# Altium schematic symbol library Minna Project.SchLib: 27 symbols
Pins are listed as number, name and electrical type; pins without a type are passive.

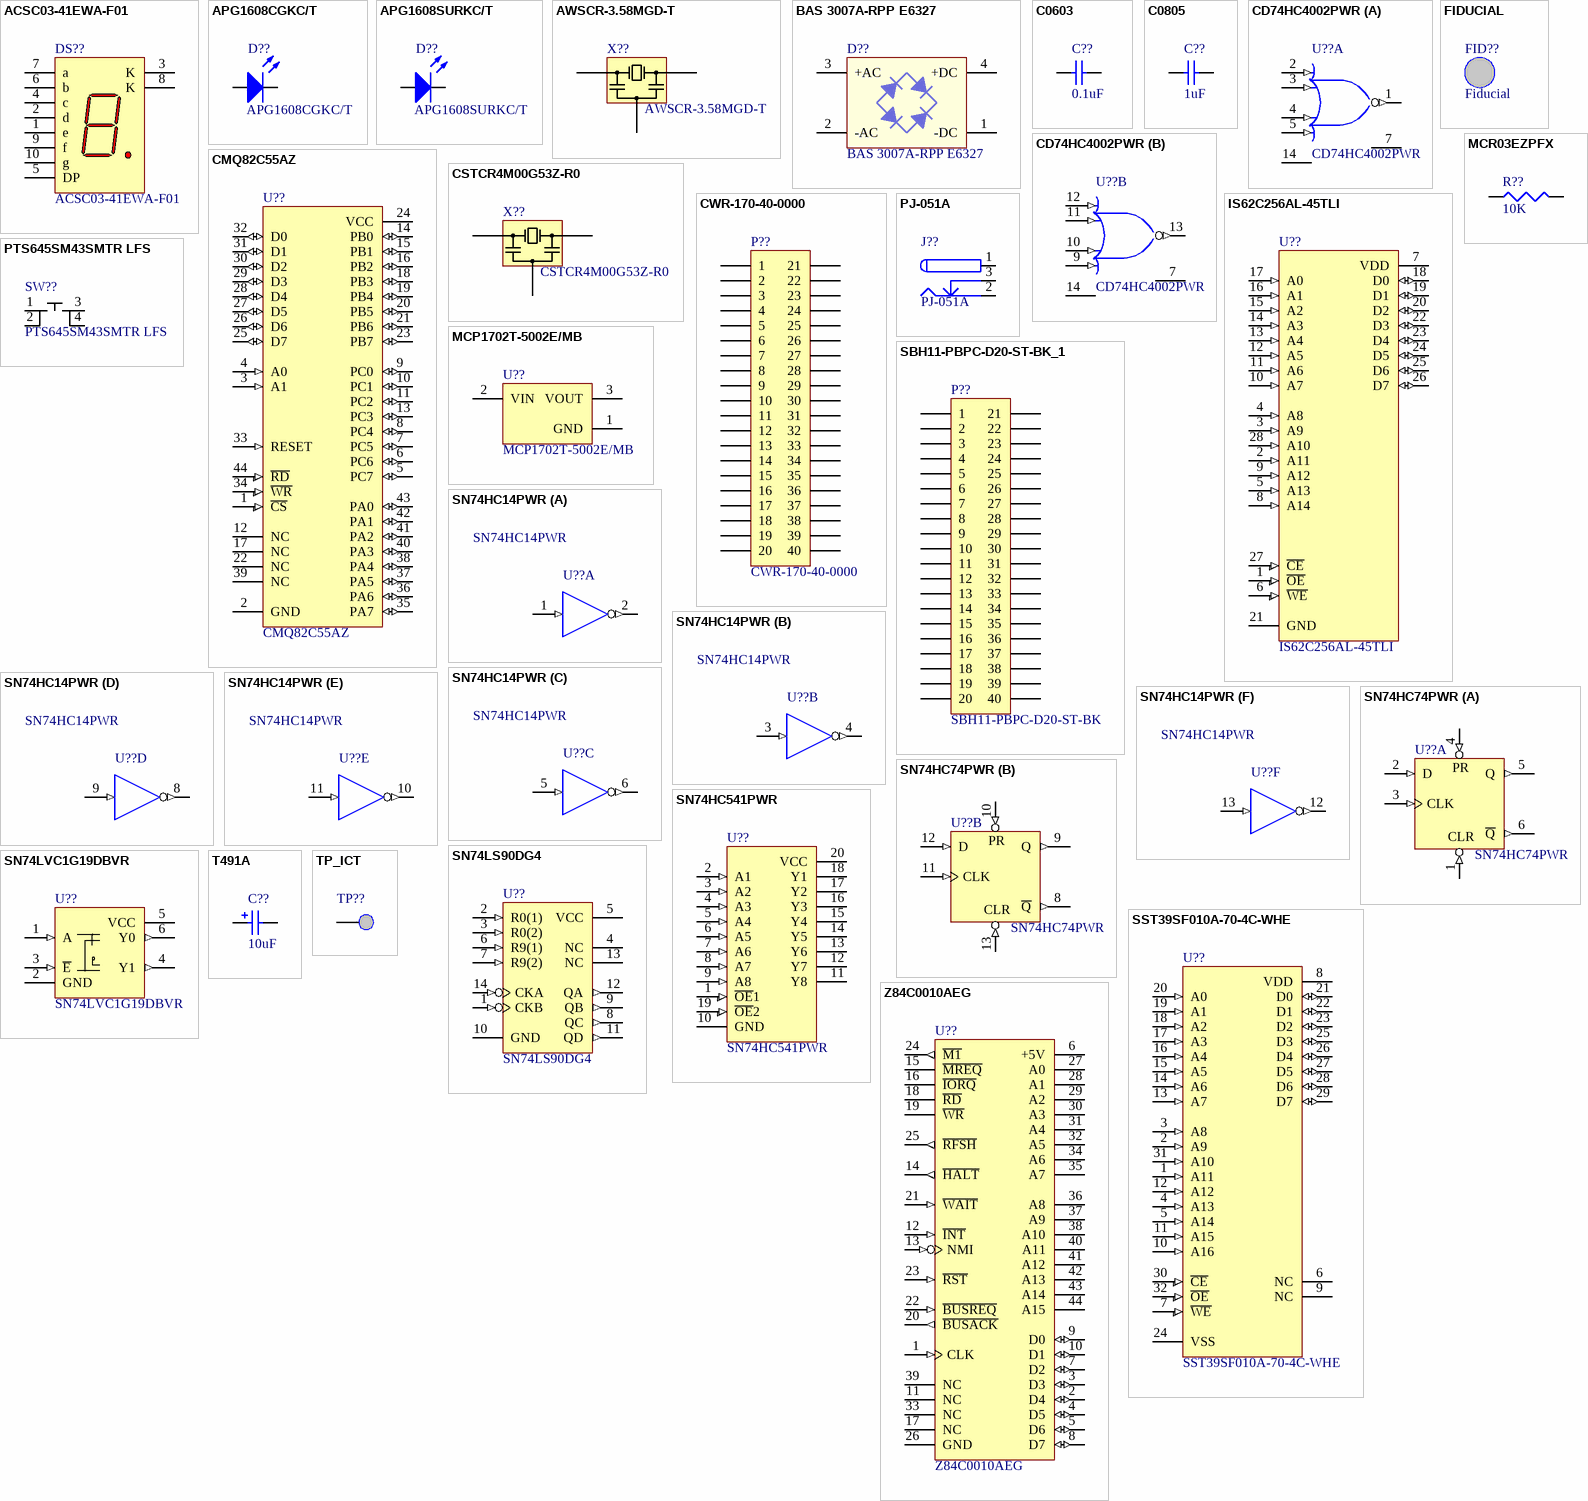
[diagram p0: symbols ACSC03-41EWA-F01 to Z84C0010AEG]

## ACSC03-41EWA-F01
designator DS??
DISPLAY 0.3" 627NM SGL RED SMD; Dist: Mouser; DistPN: 604-ACSC03-41EWA-F01; Load: yes; Mfgr: Kingbright Corp; MfgrPN: ACSC03-41EWA-F01; Package: SMD-10; Polarized: yes; Value: ACSC03-41EWA-F01
footprint ACSC03-41EWA-F01 (DISPLAY 0.3" 627NM SGL RED SMD)
pins: 1 e "Anode", 2 d "Anode", 3 K "Cathode", 4 c "Anode", 5 DP "Anode", 6 b "Anode", 7 a "Anode", 8 K "Cathode", 9 f "Anode", 10 g "Anode"

## APG1608CGKC/T
designator D??
LED 1.6X0.8MM 571NM GRN CLR SMD; Dist: Mouser; DistPN: 604-APG1608CGKC/T; Load: yes; Mfgr: Kingbright Corp; MfgrPN: APG1608CGKC/T; Package: 0603; Polarized: yes; Value: APG1608CGKC/T
footprint APG1608 (1.6mm X 0.8mm SMD LED)
simulation model LED1 (Diode)
pins: 1 A, 2 K

## APG1608SURKC/T
designator D??
LED 1.6X0.8MM 631NM RED CLR SMD; Dist: Mouser; DistPN: 604-APG1608SURKC/T; Load: yes; Mfgr: Kingbright Corp; MfgrPN: APG1608SURKC/T; Package: 0603; Polarized: yes; Value: APG1608SURKC/T
footprint APG1608 (1.6mm X 0.8mm SMD LED)
simulation model LED1 (Diode)
pins: 1 A, 2 K

## AWSCR-3.58MGD-T
designator X??
RESONATOR CER 3.58MHZ W/CAP SMD; Dist: Digi-Key; DistPN: 535-9365-1-ND; Load: yes; Mfgr: Abracon; Polarized: no; Value: AWSCR-3.58MGD-T; MfgrPN: AWSCR-3.58MGD-T; Package: SMD-7.4x3.4
footprint AWSCR-MG (CERAMIC RESONATOR 7.4 x 3.4 x 1.8mm 3-SMD)
pins: 1, 2, 3

## BAS 3007A-RPP E6327
designator D??
DIODE SCHOTTKY 30V 900MA SOT143; Dist: Digi-Key; DistPN: BAS3007A-RPPE6327INCT-ND; Load: yes; Mfgr: Infineon Technologies; MfgrPN: BAS 3007A-RPP E6327; Notes: *; Package: SOT-143; Polarized: yes; Value: BAS 3007A-RPP E6327
footprint SOT143 (SOT-143; 4 Leads; Body 3 x 2.6 mm, inc. leads (LxW max))
pins: 1 -DC (power), 2 -AC (power), 3 +AC (power), 4 +DC (power)

## C0603
designator C??, comment 0.1uF
CAP .10UF 16V CERAMIC X7R 0603; Dist: Digi-key; DistPN: 399-1096-1-ND; Load: yes; Mfgr: Kemet; MfgrPN: C0603C104K4RACTU; Polarized: no; Value: 0.1uF; Notes: *; Package: 0603
footprint 0603
simulation model CAP (Capacitor)
signal-integrity model C0603
pins: 1, 2

## C0805
designator C??, comment 1uF
CAP 1.0UF 16V CERAMIC X7R 0805; Dist: Digi-key; DistPN: 399-1284-1-ND; Load: yes; Mfgr: Kemet; MfgrPN: C0805C105K4RACTU; Polarized: no; Value: 1uF; Notes: *; Package: 0805
footprint 0805
simulation model CAP (Capacitor)
signal-integrity model C0805
pins: 1, 2

## CD74HC4002PWR
designator U??
IC DUAL 4-IN NOR GATE 14TSSOP; Dist: Mouser; DistPN: 595-CD74HC4002PWR; Load: yes; Mfgr: Texas Instruments; MfgrPN: CD74HC4002PWR; Notes: *; Package: TSSOP-14; Polarized: yes; Value: CD74HC4002PWR
footprint PW014
signal-integrity model SN74HC4002D
pins on every part: 7 GND (power), 14 VCC (power)
part A pins: 1 Y (out), 2 A (in), 3 B (in), 4 C (in), 5 D (in)
part B pins: 9 D (in), 10 C (in), 11 B (in), 12 A (in), 13 Y (out)

## CMQ82C55AZ
designator U??
IC I/O EXPANDER 24B 44MQFP; Dist: Avnet; Load: yes; Mfgr: Intersil; DistPN: CMQ82C55AZ; MfgrPN: CMQ82C55AZ; Package: MQFP-44; Polarized: yes; Value: CMQ82C55AZ
footprint MQFP-44 (44 LEAD METRIC PLASTIC QUAD FLATPACK 10x10)
pins: 1 ~{CS} (in), 2 GND (power), 3 A1 (in), 4 A0 (in), 5 PC7 (io), 6 PC6 (io), 7 PC5 (io), 8 PC4 (io), 9 PC0 (io), 10 PC1 (io), 11 PC2 (io), 12 NC, 13 PC3 (io), 14 PB0 (io), 15 PB1 (io), 16 PB2 (io), 17 NC, 18 PB3 (io), 19 PB4 (io), 20 PB5 (io), 21 PB6 (io), 22 NC, 23 PB7 (io), 24 VCC (power), 25 D7 (io), 26 D6 (io), 27 D5 (io), 28 D4 (io), 29 D3 (io), 30 D2 (io), 31 D1 (io), 32 D0 (io), 33 RESET (in), 34 ~{WR} (in), 35 PA7 (io), 36 PA6 (io), 37 PA5 (io), 38 PA4 (io), 39 NC, 40 PA3 (io), 41 PA2 (io), 42 PA1 (io), 43 PA0 (io), 44 ~{RD} (in)

## CSTCR4M00G53Z-R0
designator X??
CER RESONATOR 4.00MHZ SMD; Dist: Digi-Key; DistPN: 490-1217-1-ND; Load: yes; Mfgr: Murata; Polarized: no; Value: CSTCR4M00G53Z-R0; MfgrPN: CSTCR4M00G53Z-R0; Package: SMD-4.5x2
footprint CSTCR_G (Ceramic Resonator - Murata CERALOCK series)
pins: 1, 2, 3

## CWR-170-40-0000
designator P??
CONN CARD EDGE 40PIN GOLD; Dist: Digi-Key; DistPN: CCE40G-ND; Load: no; Mfgr: CW Industries; Polarized: yes; MfgrPN: CWR-170-40-0000; Notes: *; Package: *; Value: CWR-170-40-0000
footprint CARD EDGE 40 PIN (CARD EDGE 40 PIN FOR CWR-170-40-0000)
signal-integrity model Connector
pins: 1, 2, 3, 4, 5, 6, 7, 8, 9, 10, 11, 12, 13, 14, 15, 16, 17, 18, 19, 20, 21, 22, 23, 24, 25, 26, 27, 28, 29, 30, 31, 32, 33, 34, 35, 36, 37, 38, 39, 40

## FIDUCIAL
designator FID??, comment Fiducial  (no BOM)
Load: DNP; Polarized: no; Dist: *; DistPN: *; Mfgr: *; MfgrPN: *; Notes: *; Value: Fiducial; Package: *
footprint Fiducial

## IS62C256AL-45TLI
designator U??
IC SRAM 256KBIT 45NS 28TSOP; Dist: Digi-Key; DistPN: 706-1109-ND; Load: yes; Mfgr: ISSI; MfgrPN: IS62C256AL-45TLI; Package: TSOP-28; Polarized: yes; Value: IS62C256AL-45TLI
footprint IS62C256AL-45TLI (IC SRAM 256KBIT 45NS 28TSOP)
pins: 1 ~{OE} (in), 2 A11 (in), 3 A9 (in), 4 A8 (in), 5 A13 (in), 6 ~{WE} (in), 7 VDD (power), 8 A14 (in), 9 A12 (in), 10 A7 (in), 11 A6 (in), 12 A5 (in), 13 A4 (in), 14 A3 (in), 15 A2 (in), 16 A1 (in), 17 A0 (in), 18 D0 (io), 19 D1 (io), 20 D2 (io), 21 GND (power), 22 D3 (io), 23 D4 (io), 24 D5 (io), 25 D6 (io), 26 D7 (io), 27 ~{CE} (in), 28 A10 (in)

## MCP1702T-5002E/MB
designator U??
IC REG LDO 5V 250MA SOT-89-3; Dist: Mouser; DistPN: 579-MCP1702T5002E/MB; Load: yes; Mfgr: Microchip; MfgrPN: MCP1702T-5002E/MB; Package: SOT-89; Polarized: yes; Value: MCP1702T-5002E/MB
footprint SOT-89
pins: 1 GND (power), 2 VIN (power), 3 VOUT (power)

## MCR03EZPFX
designator R??, comment 10K
RES 10.0K OHM 1/10W 1% 0603 SMD; Dist: Digi-Key; DistPN: RHM10.0KHCT-ND; Mfgr: Rohm; MfgrPN: MCR03EZPFX1002; Load: yes; Polarized: no; Value: 10K; Package: 0603
simulation model RESISTOR (Resistor)
signal-integrity model Res
footprint 0603
pins: 1, 2

## PJ-051A
designator J??
CON PWR JCK 2.0 X 6.0MM W/SHLD; Dist: Digi-Key; DistPN: CP-051A-ND; Load: yes; Mfgr: CUI Inc; MfgrPN: PJ-051A; Package: PTH; Polarized: yes; Value: PJ-051A
footprint PJ-051A (DC POWER JACK)
signal-integrity model Connector
pins: 1 (power), 2 (power), 3 (power)

## PTS645SM43SMTR LFS
designator SW??
SWITCH TACT 6MM 160GF H=4.3MM; Dist: Mouser; DistPN: 611-PTS645SM43SMTRLF; Load: yes; Mfgr: C&K Components; Polarized: no; MfgrPN: PTS645SM43SMTR LFS; Package: SMD-6x6
footprint PTS645SM43SMTR LFS (SWITCH TACT 6MM 160GF H=4.3MM)
pins: 1, 2, 3, 4

## SBH11-PBPC-D20-ST-BK_1
designator P??, comment SBH11-PBPC-D20-ST-BK
CONN HEADER 2.54MM 40POS GOLD; Dist: Digi-Key; DistPN: S9175-ND; Load: yes; Mfgr: Sullins Connector Solutions; MfgrPN: SBH11-PBPC-D20-ST-BK; Notes: *; Package: *; Polarized: yes; Value: SBH11-PBPC-D20-ST-BK
footprint SBH11-PBPC-D20-ST-BK (CONN HEADER 2.54MM 40POS GOLD)
signal-integrity model Connector
pins: 1, 2, 3, 4, 5, 6, 7, 8, 9, 10, 11, 12, 13, 14, 15, 16, 17, 18, 19, 20, 21, 22, 23, 24, 25, 26, 27, 28, 29, 30, 31, 32, 33, 34, 35, 36, 37, 38, 39, 40

## SN74HC14PWR
designator U??
IC HEX SCHMITT-TRIG INV 14-TSSOP; Dist: Avnet; DistPN: SN74HC14PWR/BKN; Load: yes; Mfgr: Texas Instruments; MfgrPN: SN74HC14PWR; Package: TSSOP-14; Polarized: yes; Value: SN74HC14PWR
footprint PW014
3D model PW014 (Shrink Small Outline; 14 Leads; Body Width 4.4 mm; Pitch 0.65 mm)
signal-integrity model SN74HC14PWR
pins on every part: 7 GND (power) hidden, 14 VCC (power) hidden
part A pins: 1 A (in), 2 ~{Y} (out)
part B pins: 3 A (in), 4 ~{Y} (out)
part C pins: 5 A (in), 6 ~{Y} (out)
part D pins: 8 ~{Y} (out), 9 A (in)
part E pins: 10 ~{Y} (out), 11 A (in)
part F pins: 12 ~{Y} (out), 13 A (in)

## SN74HC74PWR
designator U??
IC DUAL F-F W/CLR/PRESET 14TSSOP; Dist: Mouser; DistPN: 595-SN74HC74PWR; Load: yes; Mfgr: Texas Instruments; MfgrPN: SN74HC74PWR; Package: TSSOP-14; Polarized: yes; Value: SN74HC74PWR
footprint PW014
3D model PW014 (Shrink Small Outline; 14 Leads; Body Width 4.4 mm; Pitch 0.65 mm)
signal-integrity model SN74HC74PWR
pins on every part: 7 GND (power) hidden, 14 VCC (power) hidden
part A pins: 1 CLR (in), 2 D (in), 3 CLK (in), 4 PR (in), 5 Q (out), 6 ~{Q} (out)
part B pins: 8 ~{Q} (out), 9 Q (out), 10 PR (in), 11 CLK (in), 12 D (in), 13 CLR (in)

## SN74HC541PWR
designator U??
IC BUFF/DVR TRI-ST 8BIT 20TSSOP; Dist: Digi-Key; DistPN: 296-8335-1-ND; Load: yes; Mfgr: Texas Instruments; MfgrPN: SN74HC541PWR; Package: TSSOP-20; Polarized: yes; Value: SN74HC541PWR
footprint PW020
3D model PW020 (20-Pin Thin Small Outline Package 0.65 mm Pitch)
signal-integrity model SN74HC541PWR
pins: 1 ~{OE}1 (in), 2 A1 (in), 3 A2 (in), 4 A3 (in), 5 A4 (in), 6 A5 (in), 7 A6 (in), 8 A7 (in), 9 A8 (in), 10 GND (power), 11 Y8 (hiz), 12 Y7 (hiz), 13 Y6 (hiz), 14 Y5 (hiz), 15 Y4 (hiz), 16 Y3 (hiz), 17 Y2 (hiz), 18 Y1 (hiz), 19 ~{OE}2 (in), 20 VCC (power)

## SN74LS90DG4
designator U??
IC COUNTER DECADE 4BIT 14SOIC; Dist: Mouser; DistPN: 595-SN74LS90DG4; Load: yes; Mfgr: Texas Instruments; MfgrPN: SN74LS90DG4; Package: SOIC-14; Polarized: yes; Value: SN74LS90DG4
footprint DO14
3D model D014 (14-Pin Small Outline Integrated Circuit 1.27 mm Pitch)
simulation model SN74LS90 (SIMCODE)
signal-integrity model SN74LS90D
pins: 1 CKB (in), 2 R0(1) (in), 3 R0(2) (in), 4 NC, 5 VCC (power), 6 R9(1) (in), 7 R9(2) (in), 8 QC (out), 9 QB (out), 10 GND (power), 11 QD (out), 12 QA (out), 13 NC, 14 CKA (in)

## SN74LVC1G19DBVR
designator U??
IC MUX/DECODER SNGL 1OF2 SOT23-6; Dist: Mouser; DistPN: 595-SN74LVC1G19DCKR; Load: yes; Mfgr: Texas Instruments; MfgrPN: SN74LVC1G19DCKR; Package: TSSOP-6; Polarized: yes; Value: SN74LVC1G19DBVR
footprint SOT-23-6 DBV R-PDSO-G6 (SOT-23-6 TI DBV)
pins: 1 A (in), 2 GND (power), 3 ~{E} (in), 4 Y1 (out), 5 VCC (power), 6 Y0 (out)

## SST39SF010A-70-4C-WHE
designator U??
IC FLASH MPF 1MBIT 70NS 32TSOP; Dist: Mouser; DistPN: 804-39SF010A7CWHE; Load: yes; Mfgr: SST; MfgrPN: SST39SF010A-70-4C-WHE; Package: TSOP-32; Polarized: yes; Value: SST39SF010A-70-4C-WHE
footprint SST39SF010A-70-4C-WHE (IC FLASH MPF 1MBIT 70NS 32TSOP)
pins: 1 A11 (in), 2 A9 (in), 3 A8 (in), 4 A13 (in), 5 A14 (in), 6 NC, 7 ~{WE} (in), 8 VDD (power), 9 NC, 10 A16 (in), 11 A15 (in), 12 A12 (in), 13 A7 (in), 14 A6 (in), 15 A5 (in), 16 A4 (in), 17 A3 (in), 18 A2 (in), 19 A1 (in), 20 A0 (in), 21 D0 (io), 22 D1 (io), 23 D2 (io), 24 VSS (power), 25 D3 (io), 26 D4 (io), 27 D5 (io), 28 D6 (io), 29 D7 (io), 30 ~{CE} (in), 31 A10 (in), 32 ~{OE} (in)

## T491A
designator C??, comment 10uF
CAPACITOR TANT 10UF 10V 10% SMD; Dist: Avnet; DistPN: T491A106K010AT/BKN; Load: yes; Mfgr: Kemet; MfgrPN: T491A106K010AT; Value: 10uF; Notes: *; Package: 1206; Polarized: yes
footprint 1206_A
simulation model CAP (Capacitor)
signal-integrity model T491A
pins: 1, 2
1 alternate drawing of the same symbol

## TP_ICT
designator TP??  (value not drawn)
Test Point; Load: DNP; Polarized: no; Value: TP_ICT
footprint TP_ICT (ICT Test Point)
pins: TP

## Z84C0010AEG
designator U??
IC Z80 CPU CMOS 10MHZ 44LQFP; Dist: Digi-Key; DistPN: 269-4574-ND; Load: yes; Mfgr: Zilog; MfgrPN: Z84C0010AEG; Package: LQFP-44; Polarized: yes; Value: Z84C0010AEG
footprint LQFP-44 (44-Lead Plastic Low-Profile Quad Flat Package (10 x 10 x 1.4 mm))
3D model Z84C00-PQFP44 (44-Pin Quad Flat Pack 0.8 mm Pitch)
pins: 1 CLK (in), 2 D4 (io), 3 D3 (io), 4 D5 (io), 5 D6 (io), 6 +5V (power), 7 D2 (io), 8 D7 (io), 9 D0 (io), 10 D1 (io), 11 NC, 12 ~{INT} (in), 13 NMI (in), 14 ~{HALT} (out), 15 ~{MREQ} (hiz), 16 ~{IORQ} (hiz), 17 NC, 18 ~{RD} (hiz), 19 ~{WR} (hiz), 20 ~{BUSACK} (out), 21 ~{WAIT} (in), 22 ~{BUSREQ} (in), 23 ~{RST} (in), 24 ~{M1} (out), 25 ~{RFSH} (out), 26 GND (power), 27 A0 (hiz), 28 A1 (hiz), 29 A2 (hiz), 30 A3 (hiz), 31 A4 (hiz), 32 A5 (hiz), 33 NC, 34 A6 (hiz), 35 A7 (hiz), 36 A8 (hiz), 37 A9 (hiz), 38 A10 (hiz), 39 NC, 40 A11 (hiz), 41 A12 (hiz), 42 A13 (hiz), 43 A14 (hiz), 44 A15 (hiz)